# Altium footprint library 1990083.PcbLib: 1 footprints
Each footprint in its own frame and in the unit in brackets; x right, y up, seen from the top. Pads: shape width x height; smd on the part's side, far side on the other; paste and mask are expansions set on the pad; w line width, h text height; cw(c..) or ccw(c..) is an arc to the next point about the centre after c.
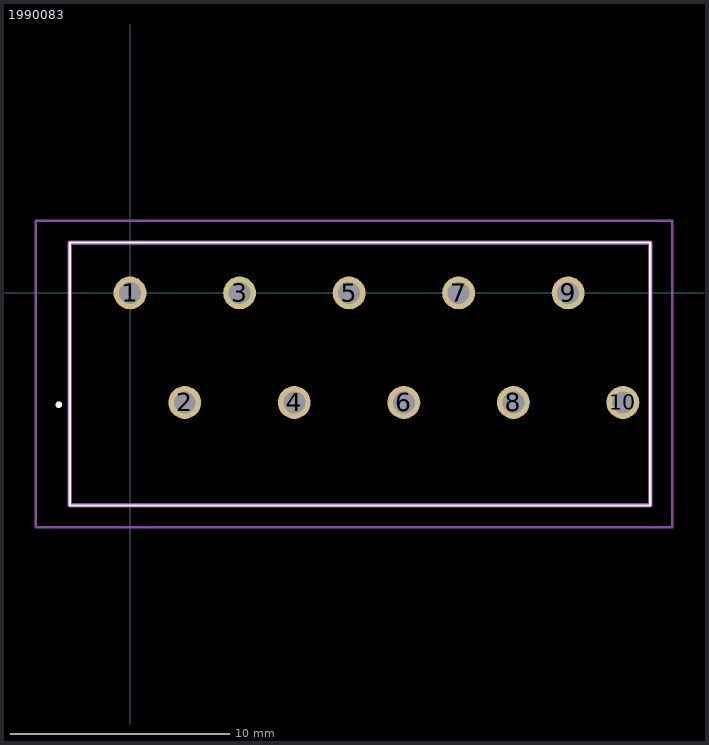
[diagram p0: the footprint, top view; thin cyan lines are the x and y axes]

## 1990083 [mm]
pads (10):
  round 1.5 hole 1: 1(0,0) 2(2.5,-5) 3(5,0) 4(7.5,-5) 5(10,0) 6(12.5,-5) 7(15,0) 8(17.5,-5) 9(20,0) 10(22.5,-5)
Top Overlay:
  lines w0.1: -2.75,-9.7 23.75,-9.7 23.75,2.3 -2.75,2.3 -2.75,-9.7
  lines w0.2: -3.3,-5.1 ccw(c-3.25,-5.1) -3.2,-5.1 ; -3.3,-5.1 cw(c-3.25,-5.1) -3.2,-5.1 ; -3.3,-5.1 ccw(c-3.25,-5.1) -3.2,-5.1
Mechanical 15:
  lines w0.2: -2.75,-9.7 23.75,-9.7 23.75,2.3 -2.75,2.3 -2.75,-9.7
Mechanical 20:
  lines w0.1: -4.3,-10.7 24.75,-10.7 24.75,3.3 -4.3,3.3 -4.3,-10.7
3D body "pxc_1990083_02_02_PTSA-0-5-10-2-5-Z_3D.stp": height 13.1, standoff -3.5, extent -2.836,-9.652 23.664,2.348